# Altium schematic symbol library SN74LS11N.SchLib: 1 symbol
Pins are listed as number, name and electrical type; pins without a type are passive.

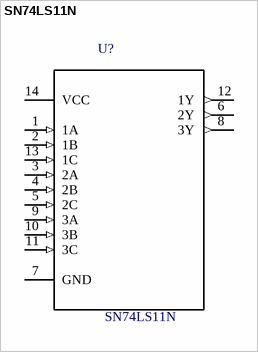
[diagram p0: symbol SN74LS11N]

## SN74LS11N
designator U?
IC: digital; Mounting: THT; Case: DIP14; Channels: 3; Ga; MF: Texas Instruments; Availability: Unavailable; Package: DIP-14 Texas Instruments; MP: SN74LS11N; SnapEDA_Link: https://www.snapeda.com/parts/SN74LS11N/Texas%20Instruments/view-part/?ref=snap; Price: None; Value: *
footprint *DIP254P762X508-14
pins: 1 1A (in), 2 1B (in), 3 2A (in), 4 2B (in), 5 2C (in), 6 2Y (out), 7 GND, 8 3Y (out), 9 3A (in), 10 3B (in), 11 3C (in), 12 1Y (out), 13 1C (in), 14 VCC (power)